# EAGLE library part LM22678 (library Regulator)
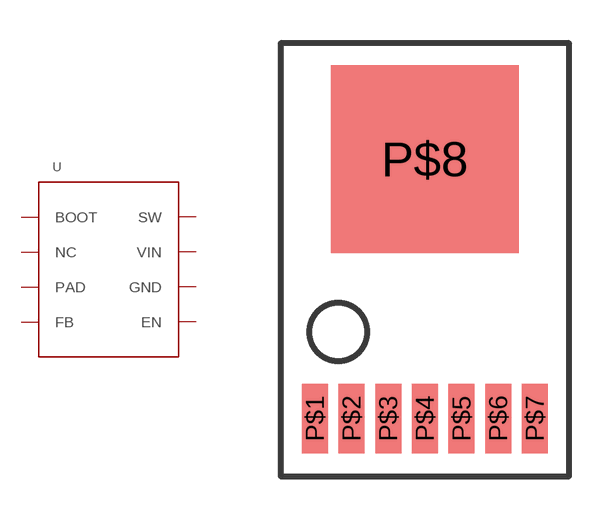
[diagram p2: symbol with the pads of TO-263; footprint TO-263]

Designator prefix U

## LM22678QTJE50NPB  [TO-263]
P$1  SW
P$2  VIN
P$3  BOOT
P$4  GND
P$5  NC  nc
P$6  FB
P$7  EN
P$8  PAD

## Footprint TO-263 (pad centres in mm)
smd 0.9 x 2.4: P$1 -3.81,0; P$2 -2.54,0; P$3 -1.27,0; P$4 0,0; P$5 1.27,0; P$6 2.54,0; P$7 3.81,0
smd 6.5 x 6.5: P$8 0,8.99